# Altium schematic symbol library switch-reed.SCHLIB: 14 symbols
Pins are listed as number, name and electrical type; pins without a type are passive.

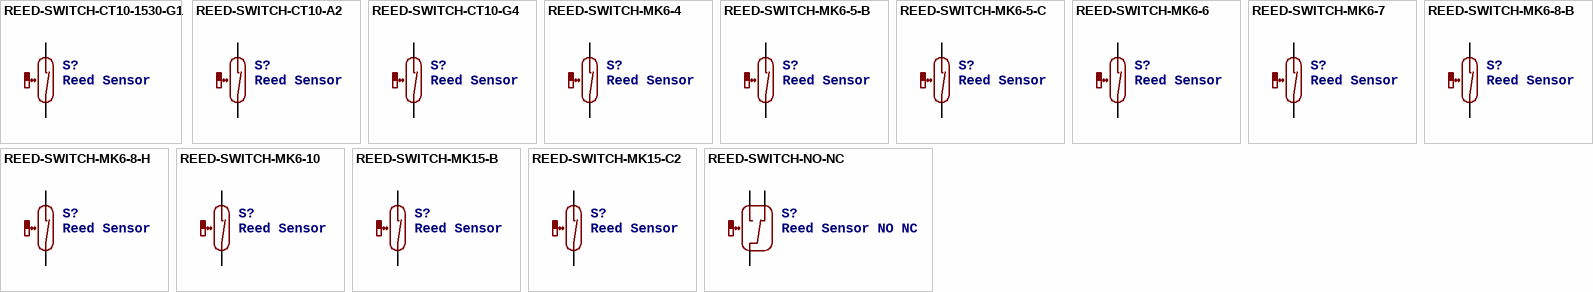
[diagram p0: symbols REED-SWITCH-CT10-1530-G1 to REED-SWITCH-NO-NC]

## REED-SWITCH-CT10-1530-G1
designator S?, comment Reed Sensor
MPN: CT10-1530-G1; MF: COTO TECHNOLOGY; OC_FARNELL: 1081696
footprint CT10-G1
pins: 1, 2

## REED-SWITCH-CT10-A2
designator S?, comment Reed Sensor
OC_FARNELL: unknown
footprint CT10-A2
pins: 1, 2

## REED-SWITCH-CT10-G4
designator S?, comment Reed Sensor
OC_FARNELL: unknown
footprint CT10-G4
pins: 1, 2

## REED-SWITCH-MK6-4
designator S?, comment Reed Sensor
OC_FARNELL: unknown
footprint MK6-4
pins: 1, 2

## REED-SWITCH-MK6-5-B
designator S?, comment Reed Sensor
MPN: MK6-5-B; MF: MEDER; OC_FARNELL: 1079479
footprint MK6-5
pins: 1, 2

## REED-SWITCH-MK6-5-C
designator S?, comment Reed Sensor
MPN: MK6-5-C; MF: MEDER; OC_FARNELL: 1079480
footprint MK6-5
pins: 1, 2

## REED-SWITCH-MK6-6
designator S?, comment Reed Sensor
OC_FARNELL: unknown
footprint MK6-6
pins: 1, 2

## REED-SWITCH-MK6-7
designator S?, comment Reed Sensor
OC_FARNELL: unknown
footprint MK6-7
pins: 1, 2

## REED-SWITCH-MK6-8-B
designator S?, comment Reed Sensor
MPN: MK6-8-B; MF: MEDER; OC_FARNELL: 1079481
footprint MK6-8-A
pins: 1, 2

## REED-SWITCH-MK6-8-H
designator S?, comment Reed Sensor
MPN: MK6-8-H; MF: MEDER; OC_FARNELL: 1079482
footprint MK6-8-A
pins: 1, 2

## REED-SWITCH-MK6-10
designator S?, comment Reed Sensor
OC_FARNELL: unknown
footprint MK6-10
pins: 1, 2

## REED-SWITCH-MK15-B
designator S?, comment Reed Sensor
MPN: MK15-B-2; MF: MEDER; OC_FARNELL: 1079484
footprint MK15
pins: 1, 2

## REED-SWITCH-MK15-C2
designator S?, comment Reed Sensor
MPN: MK15-C-2; MF: MEDER; OC_FARNELL: 1079485
footprint MK15
pins: 1, 2

## REED-SWITCH-NO-NC
designator S?, comment Reed Sensor NO NC
footprint MK6-8-C
pins: COM, NC, NO